# EAGLE library part SI1145 (library Jordi)
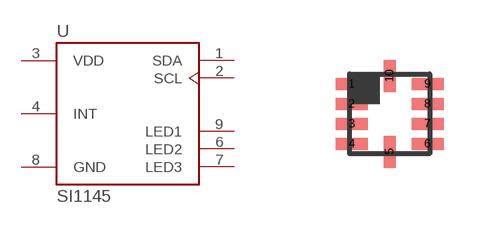
[diagram p30: symbol with the pads of QFN-10; footprint QFN-10]

Designator prefix U

## SI1145QFN  [QFN-10]
1  SDA
2  SCL
3  VDD  pwr
4  INT
6  LED2  out
7  LED3  out
8  GND  pwr
9  LED1  out

## Footprint QFN-10 (pad centres in mm)
smd 0.8 x 0.3: 1 -0.95,0.75; 2 -0.95,0.25; 3 -0.95,-0.25; 4 -0.95,-0.75; 6 0.95,-0.75; 7 0.95,-0.25; 8 0.95,0.25; 9 0.95,0.75
smd 0.3 x 0.8: 5 0,-0.95; 10 0,0.95